# EAGLE library part HEADER-7P (library Connector-new)
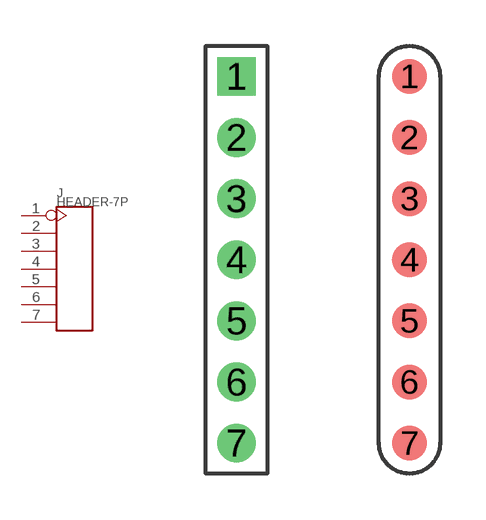
[diagram p1: symbol with the pads of H7-2.0; footprints H7-2.0, H7-SMD-2.0-TEST]

Designator prefix J

## HEADER-7P-2.0  [H7-2.0]
1  1
2  2
3  3
4  4
5  5
6  6
7  7

## HEADER-7P-2.0-SMD  [H7-SMD-2.0-TEST]
Pads as for H7-2.0

## HEADER-7P-2.54  [H7-2.54]
Pads as for H7-2.0

## Footprint H7-2.0 (pad centres in mm)
drill 0.762 pad 1.27 square: 1 0,6
drill 0.762 pad 1.27: 2 0,4; 3 0,2; 4 0,0; 5 0,-2; 6 0,-4; 7 0,-6

## Footprint H7-SMD-2.0-TEST (pad centres in mm)
smd 1.143 x 1.143: 1 0,6; 2 0,4; 3 0,2; 4 0,0; 5 0,-2; 6 0,-4; 7 0,-6

## Footprint H7-2.54 (pad centres in mm)
drill 1 pad 1.651 square: 1 0,7.62
drill 1 pad 1.651: 2 0,5.08; 3 0,2.54; 4 0,0; 5 0,-2.54; 6 0,-5.08; 7 0,-7.62